# Altium footprint library PDSE1-S5-S15-S.PCBLIB: 1 footprints
Each footprint in its own frame and in the unit in brackets; x right, y up, seen from the top. Pads: shape width x height; smd on the part's side, far side on the other; paste and mask are expansions set on the pad; w line width, h text height; cw(c..) or ccw(c..) is an arc to the next point about the centre after c.
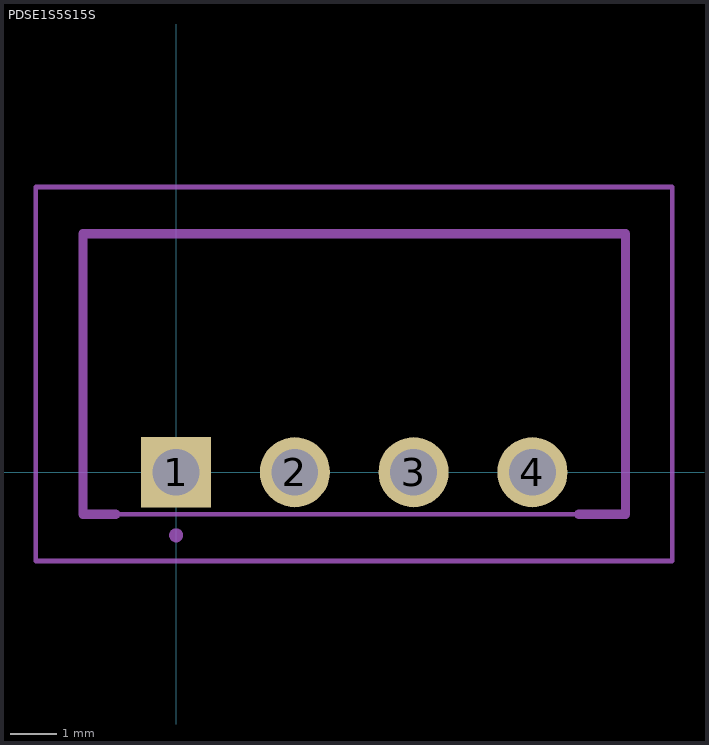
[diagram p0: the footprint, top view; thin cyan lines are the x and y axes]

## PDSE1S5S15S [mm]
pads (4):
  rect 1.5x1.5 / inner round 1.386 / far side rect 1.5x1.5 hole 1: 1(0,0)
  round 1.5 hole 1: 2(2.54,0) 3(5.08,0) 4(7.62,0)
tDocu:
  lines w0.1: -3,-1.9 10.61,-1.9 10.61,6.1 -3,6.1 -3,-1.9 ; -1.99,-0.9 9.61,-0.9 9.61,5.1 -1.99,5.1 -1.99,-0.9
tPlace:
  lines w0.2: -1.29,-0.9 -1.99,-0.9 -1.99,5.1 9.61,5.1 9.61,-0.9 8.61,-0.9 ; 0,-1.4 0,-1.4 ; 0,-1.4 ccw(c0,-1.35) 0,-1.3 ; 0,-1.4 cw(c0,-1.35) 0,-1.3 ; 0,-1.4 0,-1.3 ; 0,-1.3 0,-1.3